# EAGLE library part PARALLEL2SERIAL (library SOIC127P600X175-16N)
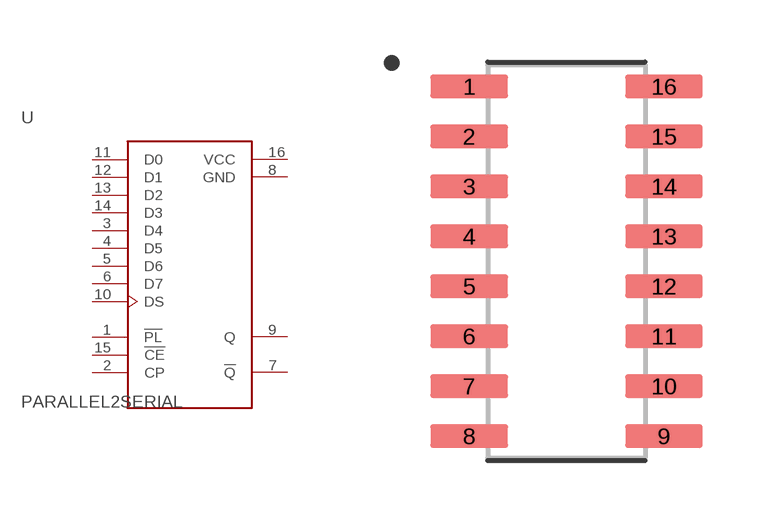
[diagram p0: symbol with the pads of SOIC127P600X175-16N; footprint SOIC127P600X175-16N]

Designator prefix -

## PARALLEL2SERIAL  [SOIC127P600X175-16N]
1  !PL
2  CP
3  D4
4  D5
5  D6
6  D7
7  !Q
8  GND
9  Q
10  DS
11  D0
12  D1
13  D2
14  D3
15  !CE
16  VCC

## Footprint SOIC127P600X175-16N (pad centres in mm)
smd 1.97 x 0.6: 1 -2.475,4.445; 2 -2.475,3.175; 3 -2.475,1.905; 4 -2.475,0.635; 5 -2.475,-0.635; 6 -2.475,-1.905; 7 -2.475,-3.175; 8 -2.475,-4.445; 9 2.475,-4.445; 10 2.475,-3.175; 11 2.475,-1.905; 12 2.475,-0.635; 13 2.475,0.635; 14 2.475,1.905; 15 2.475,3.175; 16 2.475,4.445